# Altium footprint library PcbLib.PcbLib: 6 footprints
Each footprint in its own frame and in the unit in brackets; x right, y up, seen from the top. Pads: shape width x height; smd on the part's side, far side on the other; paste and mask are expansions set on the pad; w line width, h text height; cw(c..) or ccw(c..) is an arc to the next point about the centre after c.
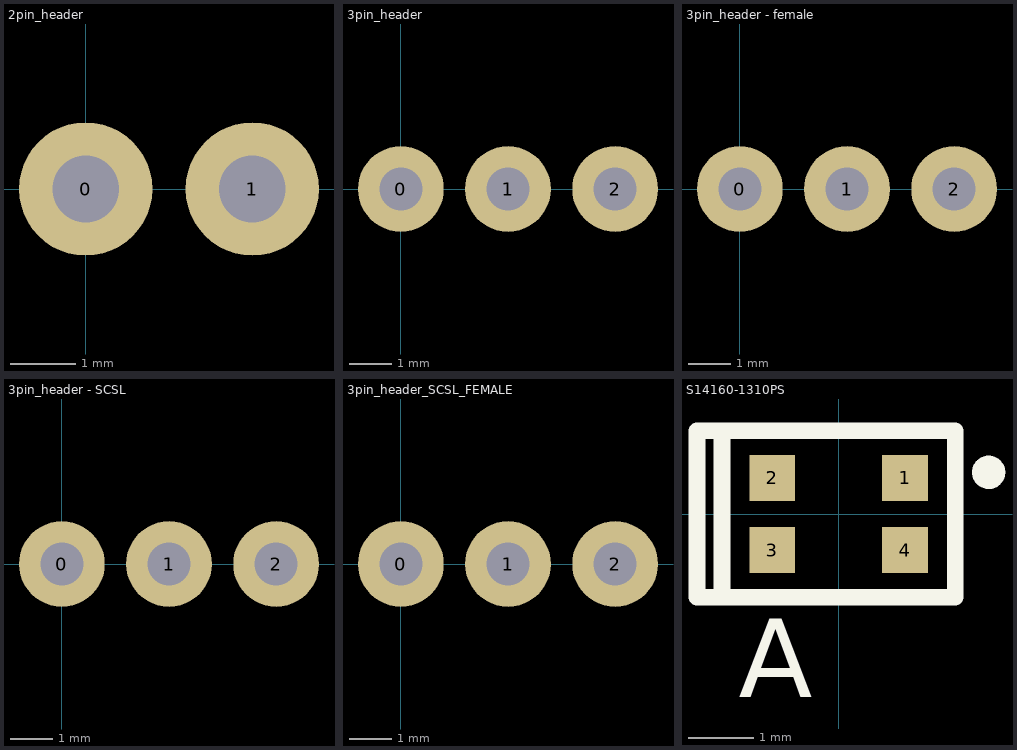
[diagram p0: the footprints below, top view; thin cyan lines are the x and y axes]

## 2pin_header [mil]
pads (2):
  round 80 hole 40: 0(0,0) 1(100,0)
3D body "2Pin.step": height 172.4, standoff -115, extent -49.99,-282.68 150.01,50

## 3pin_header [mil]
pads (3):
  round 80 hole 40: 0(0,0) 1(100,0) 2(200,0)
3D body "3Pin.step": height 172.4, standoff -115, extent -49.99,-282.68 250.01,50

## 3pin_header - female [mil]
pads (3):
  round 80 hole 40: 0(0,0) 1(100,0) 2(200,0)
3D body "pin header female 2.54mm_0.1in.STEP": height 350, standoff -344.49, extent -50,-50 250,50

## 3pin_header - SCSL [mil]
pads (3):
  round 80 hole 40: 0(0,0) 1(100,0) 2(200,0)
3D body "SCSL_pin v3.step": height 358.27, standoff -118.11, extent -50,-50 250,50

## 3pin_header_SCSL_FEMALE [mil]
pads (3):
  round 80 hole 40: 0(0,0) 1(100,0) 2(200,0)
3D body "SCSL v3.step": height 100, standoff -125.98, extent -50,-218.11 250,15.28

## S14160-1310PS [mm]
pads (4):
  rect 0.7x0.7 smd: 1(1.012,0.55) 2(-1.012,0.55) 3(-1.012,-0.55) 4(1.012,-0.55)
Top Overlay:
  circle w0.254: c2.286,0.635 r0.127
  lines w0.254: -1.778,-1.27 -1.778,1.27 ; -2.159,-1.27 -2.159,1.27 1.778,1.27 1.778,-1.27 -2.159,-1.27
  text "A" at -1.524,-2.794 h1.2
3D body: height 0.85, standoff 0, extent -1.315,-1.05 1.315,1.05